# Altium footprint library PcbLib1.PcbLib: 2 footprints
Each footprint in its own frame and in the unit in brackets; x right, y up, seen from the top. Pads: shape width x height; smd on the part's side, far side on the other; paste and mask are expansions set on the pad; w line width, h text height; cw(c..) or ccw(c..) is an arc to the next point about the centre after c.
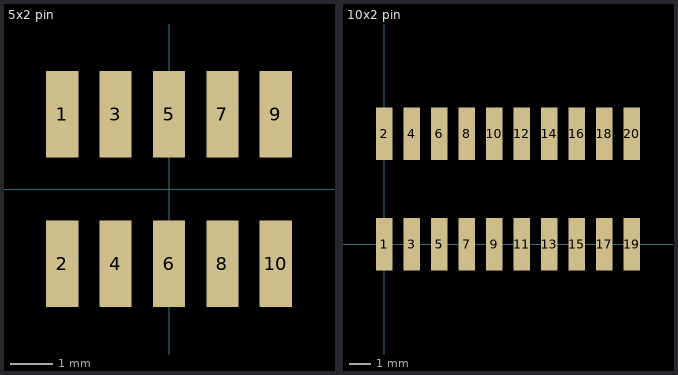
[diagram p0: the footprints below, top view; thin cyan lines are the x and y axes]

## 5x2 pin [mil]
pads (10):
  rect 30x81 smd: 1(-100,70) 2(-100,-70) 3(-50,70) 4(-50,-70) 5(0,70) 6(0,-70) 7(50,70) 8(50,-70) 9(100,70) 10(100,-70)

## 10x2 pin [mil]
pads (20):
  rect 30x95 smd: 1(0,0) 2(0,200.79) 3(50,0) 4(50,200.79) 5(100,0) 6(100,200.79) 7(150,0) 8(150,200.79) 9(200,0) 10(200,200.79) 11(250,0) 12(250,200.79) 13(300,0) 14(300,200.79) 15(350,0) 16(350,200.79) 17(400,0) 18(400,200.79) 19(450,0) 20(450,200.79)
3D body "FTR-110-51-S-D-06.stp": height 340, standoff 0, extent -23.99,-49.99 476.01,246.01